# Altium footprint library FootPrnt_fact.PcbLib: 87 footprints (part 2 of 6)
Each footprint in its own frame and in the unit in brackets; x right, y up, seen from the top. Pads: shape width x height; smd on the part's side, far side on the other; paste and mask are expansions set on the pad; w line width, h text height; cw(c..) or ccw(c..) is an arc to the next point about the centre after c.
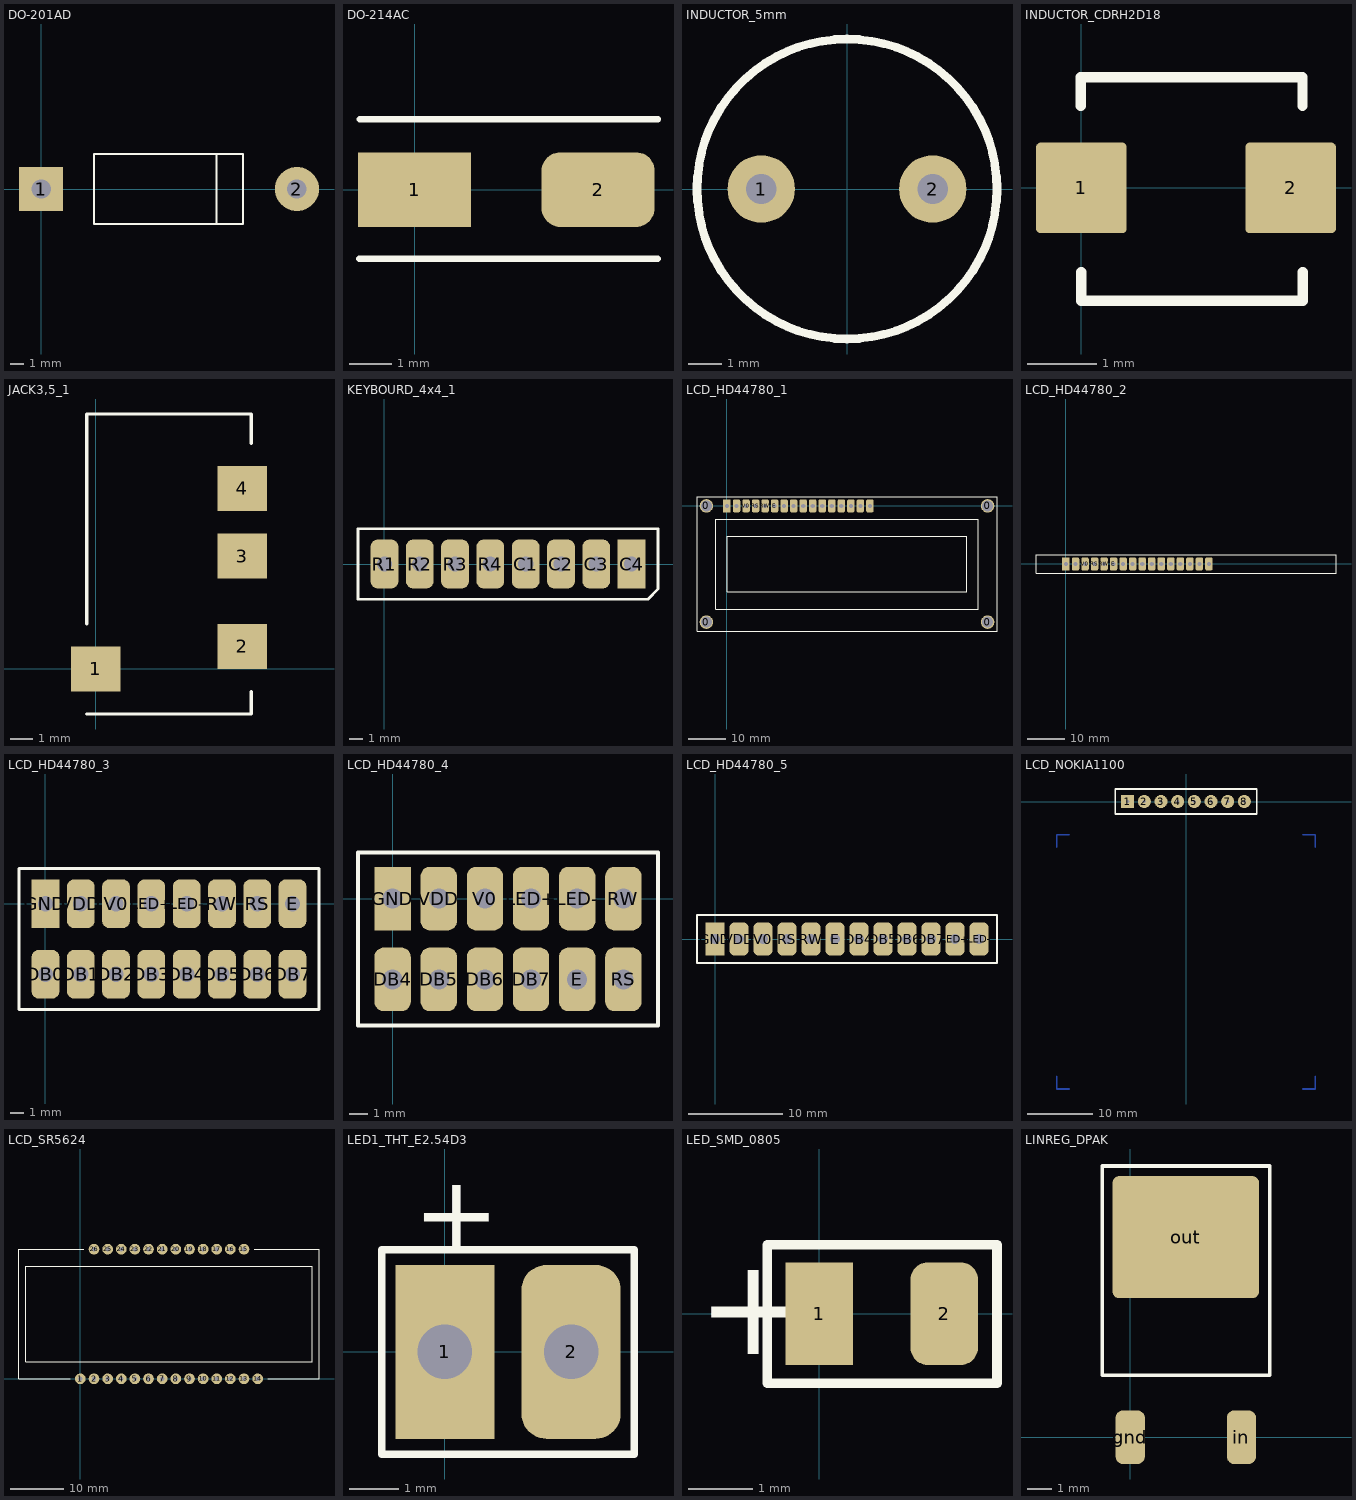
[diagram p1: the footprints below, top view; thin cyan lines are the x and y axes]

## DO-201AD [mm]
pads (2):
  rect 3.2x3.2 hole 1.4: 1(0,0)
  round 3.2 hole 1.4: 2(18.5,0)
Top Overlay:
  lines w0.15: 12.7,-2.54 12.7,2.54 ; 3.81,-2.54 3.81,2.54 14.605,2.54 14.605,-2.54 3.81,-2.54

## DO-214AC [mm]
pads (2):
  rect 2.65x1.75 smd: 1(0,0)
  rrect50% 2.65x1.75 smd: 2(4.3,0)
Top Overlay:
  lines w0.15: -1.293,-1.615 5.692,-1.615 ; -1.283,1.644 5.702,1.644

## INDUCTOR_5mm [mm] "Pin space is 5mm"
pads (2):
  round 2 hole 0.9: 1(-2.54,0) 2(2.54,0)
Top Overlay:
  circle w0.254: c0,0 r4.445

## INDUCTOR_CDRH2D18 [mm]
pads (2):
  rrect10% 1.3x1.3 smd: 1(0,0) 2(3,0)
Top Overlay:
  lines w0.15: -0.005,1.174 -0.005,1.584 3.17,1.584 3.17,1.174 ; -0.001,-1.208 -0.001,-1.617 3.174,-1.617 3.174,-1.208

## JACK3,5_1 [mm]
pads (4):
  rect 2.2x2 smd: 1(0,0) 2(6.5,1) 3(6.5,5) 4(6.5,8)
Top Overlay:
  lines w0.15: -0.4,-2 6.9,-2 6.9,-1 ; -0.4,2 -0.4,11.3 6.9,11.3 6.9,10

## KEYBOURD_4x4_1 [mm] "Membrane (from ebay)"
pads (8):
  rrect50% 2x3.5 hole 1.1: C1(10.16,0) C2(12.7,0) C3(15.24,0) R1(0,0) R2(2.54,0) R3(5.08,0) R4(7.62,0)
  rect 2x3.5 hole 1.1: C4(17.78,0)
Top Overlay:
  lines w0.2: -1.905,-2.54 -1.905,2.54 -1.27,2.54 19.685,2.54 19.685,-1.808 18.953,-2.54 -1.905,-2.54

## LCD_HD44780_1 [mm]
pads (20):
  round 3.6 hole 3: 0(-5.5,-31) 0(-5.5,0) 0(69.5,-31) 0(69.5,0)
  rrect50% 2x3.5 hole 1.1: DB0(15.24,0) DB1(17.78,0) DB2(20.32,0) DB3(22.86,0) DB4(25.4,0) DB5(27.94,0) DB6(30.48,0) DB7(33.02,0) E(12.7,0) LED+(35.56,0) LED-(38.1,0) RS(7.62,0) RW(10.16,0) V0(5.08,0) VDD(2.54,0)
  rect 2x3.5 hole 1.1: GND(0,0)
Top Overlay:
  lines w0.2: -8,-33.5 72,-33.5 72,2.5 -8,2.5 -8,-33.5 ; -3,-27.5 -3,-3.5 67,-3.5 67,-27.5 -3,-27.5 ; 0.1,-22.9 63.9,-22.9 63.9,-8.1 0.1,-8.1 0.1,-22.9

## LCD_HD44780_2 [mm]
pads (16):
  rrect50% 2x3.5 hole 1.1: DB0(15.24,0) DB1(17.78,0) DB2(20.32,0) DB3(22.86,0) DB4(25.4,0) DB5(27.94,0) DB6(30.48,0) DB7(33.02,0) E(12.7,0) LED+(35.56,0) LED-(38.1,0) RS(7.62,0) RW(10.16,0) V0(5.08,0) VDD(2.54,0)
  rect 2x3.5 hole 1.1: GND(0,0)
Top Overlay:
  lines w0.2: -8,-2.54 72,-2.54 72,2.5 -8,2.5 -8,-2.54

## LCD_HD44780_3 [mm]
pads (16):
  rrect50% 2x3.5 hole 1.1: DB0(0,-5.08) DB1(2.54,-5.08) DB2(5.08,-5.08) DB3(7.62,-5.08) DB4(10.16,-5.08) DB5(12.7,-5.08) DB6(15.24,-5.08) DB7(17.78,-5.08) E(17.78,0) LED+(7.62,0) LED-(10.16,0) RS(15.24,0) RW(12.7,0) V0(5.08,0) VDD(2.54,0)
  rect 2x3.5 hole 1.1: GND(0,0)
Top Overlay:
  lines w0.2: -1.905,-7.62 19.685,-7.62 19.685,2.54 -1.905,2.54 -1.905,-7.62

## LCD_HD44780_4 [mm]
pads (12):
  rrect50% 2x3.5 hole 1.1: DB4(0,-4.445) DB5(2.54,-4.445) DB6(5.08,-4.445) DB7(7.62,-4.445) E(10.16,-4.445) LED+(7.62,0) LED-(10.16,0) RS(12.7,-4.445) RW(12.7,0) V0(5.08,0) VDD(2.54,0)
  rect 2x3.5 hole 1.1: GND(0,0)
Top Overlay:
  lines w0.2: -1.905,-6.985 -1.905,2.54 14.605,2.54 14.605,-6.985 -1.905,-6.985

## LCD_HD44780_5 [mm]
pads (12):
  rrect50% 2x3.5 hole 1.1: DB4(15.24,0) DB5(17.78,0) DB6(20.32,0) DB7(22.86,0) E(12.7,0) LED+(25.4,0) LED-(27.94,0) RS(7.62,0) RW(10.16,0) V0(5.08,0) VDD(2.54,0)
  rect 2x3.5 hole 1.1: GND(0,0)
Top Overlay:
  lines w0.2: -1.905,-2.54 29.845,-2.54 29.845,2.54 -1.905,2.54 -1.905,-2.54

## LCD_NOKIA1100 [mm]
pads (8):
  rect 2x2 hole 0.5: 1(-8.89,0)
  round 2 hole 0.5: 2(-6.35,0) 3(-3.81,0) 4(-1.27,0) 5(1.27,0) 6(3.81,0) 7(6.35,0) 8(8.89,0)
Bottom Layer:
  lines w0.254: -19.685,-41.897 -19.685,-43.815 -17.785,-43.815 ; -19.685,-6.97 -19.685,-5.08 -17.819,-5.08 ; 17.788,-43.815 19.685,-43.815 19.685,-41.918 ; 17.809,-5.08 19.685,-5.08 19.685,-6.968
Top Overlay:
  lines w0.254: -10.795,-1.905 -10.795,1.905 10.795,1.905 10.795,-1.905 -10.795,-1.905

## LCD_SR5624 [mm]
pads (26):
  round 2 hole 0.8: 1(0,0) 2(2.54,0) 3(5.08,0) 4(7.62,0) 5(10.16,0) 6(12.7,0) 7(15.24,0) 8(17.78,0) 9(20.32,0) 10(22.86,0) 11(25.4,0) 12(27.94,0) 13(30.48,0) 14(33.02,0) 15(30.48,24.13) 16(27.94,24.13) 17(25.4,24.13) 18(22.86,24.13) 19(20.32,24.13) 20(17.78,24.13) 21(15.24,24.13) 22(12.7,24.13) 23(10.16,24.13) 24(7.62,24.13) 25(5.08,24.13) 26(2.54,24.13)
Top Overlay:
  lines w0.2: -1.905,0 -11.43,0 -11.43,24.13 0.635,24.13 ; 32.385,24.13 44.45,24.13 44.45,0 34.925,0 ; -10.16,3.175 -10.16,20.955 43.18,20.955 43.18,3.175 -10.16,3.175

## LED1_THT_E2.54D3 [mm] "Diameter - 3mm, step - 2.54mm"
pads (2):
  rect 2x3.5 hole 1.1: 1(0,0)
  rrect50% 2x3.5 hole 1.1: 2(2.54,0)
Top Overlay:
  lines w0.15: -1.27,-2.056 3.81,-2.056 3.81,2.059 -1.27,2.059 -1.27,-2.056
  text "+" at -0.635,2.059 h1.52

## LED_SMD_0805 [mm]
pads (2):
  rect 1.05x1.6 smd: 1(0,0)
  rrect50% 1.05x1.6 smd: 2(1.95,0)
Top Overlay:
  lines w0.15: -0.807,-1.083 -0.807,1.073 2.772,1.073 2.772,-1.083 -0.807,-1.083
  text "+" at -1.905,-0.635 h1.52

## LINREG_DPAK [mm]
pads (3):
  rrect50% 1.2x2.2 smd: gnd(0,0) in(4.56,0)
  rrect10% 6x5 smd: out(2.28,8.2)
Top Overlay:
  lines w0.15: -1.139,2.54 -1.139,11.118 5.715,11.118 5.715,2.54 -1.139,2.54